# EAGLE library part 100-2X40 (library con-edge-finger)
PCB EDGE FINGER 0.1 Pitch, 2x40, Dual Row (80 Pin)
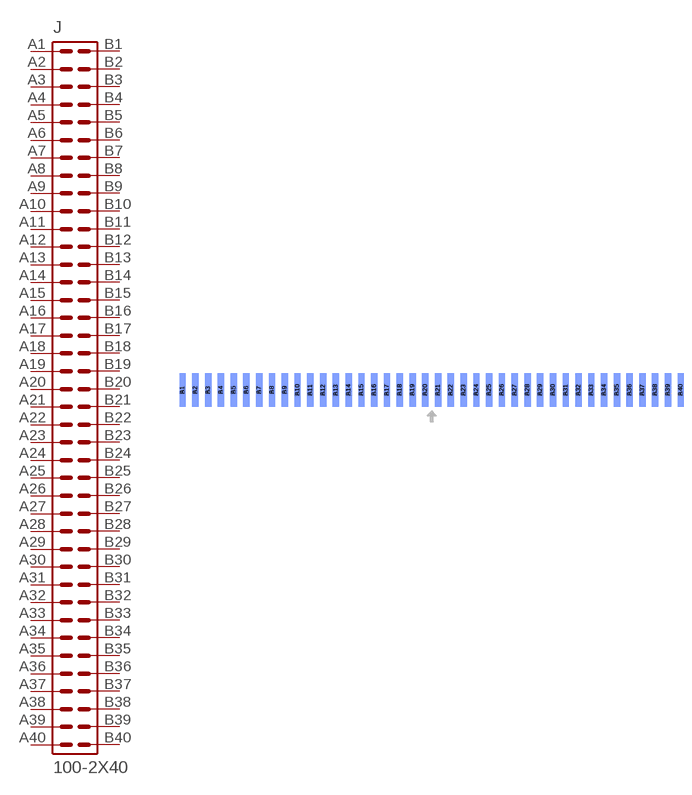
[diagram p0: symbol with the pads of 100-2X40; footprint 100-2X40]

Designator prefix J

## 100-2X40  [100-2X40]
A1  A1  pas
A2  A2  pas
A3  A3  pas
A4  A4  pas
A5  A5  pas
A6  A6  pas
A7  A7  pas
A8  A8  pas
A9  A9  pas
A10  A10  pas
A11  A11  pas
A12  A12  pas
A13  A13  pas
A14  A14  pas
A15  A15  pas
A16  A16  pas
A17  A17  pas
A18  A18  pas
A19  A19  pas
A20  A20  pas
A21  A21  pas
A22  A22  pas
A23  A23  pas
A24  A24  pas
A25  A25  pas
A26  A26  pas
A27  A27  pas
A28  A28  pas
A29  A29  pas
A30  A30  pas
A31  A31  pas
A32  A32  pas
A33  A33  pas
A34  A34  pas
A35  A35  pas
A36  A36  pas
A37  A37  pas
A38  A38  pas
A39  A39  pas
A40  A40  pas
B1  B1  pas
B2  B2  pas
B3  B3  pas
B4  B4  pas
B5  B5  pas
B6  B6  pas
B7  B7  pas
B8  B8  pas
B9  B9  pas
B10  B10  pas
B11  B11  pas
B12  B12  pas
B13  B13  pas
B14  B14  pas
B15  B15  pas
B16  B16  pas
B17  B17  pas
B18  B18  pas
B19  B19  pas
B20  B20  pas
B21  B21  pas
B22  B22  pas
B23  B23  pas
B24  B24  pas
B25  B25  pas
B26  B26  pas
B27  B27  pas
B28  B28  pas
B29  B29  pas
B30  B30  pas
B31  B31  pas
B32  B32  pas
B33  B33  pas
B34  B34  pas
B35  B35  pas
B36  B36  pas
B37  B37  pas
B38  B38  pas
B39  B39  pas
B40  B40  pas

## Footprint 100-2X40 (pad centres in mm)
PCB Edge Finger 2x40, pitch 0.1"
smd 1.27 x 6.731: A1 -49.53,-3.493; A2 -46.99,-3.493; A3 -44.45,-3.493; A4 -41.91,-3.493; A5 -39.37,-3.493; A6 -36.83,-3.493; A7 -34.29,-3.493; A8 -31.75,-3.493; A9 -29.21,-3.493; A10 -26.67,-3.493; A11 -24.13,-3.493; A12 -21.59,-3.493; A13 -19.05,-3.493; A14 -16.51,-3.493; A15 -13.97,-3.493; A16 -11.43,-3.493; A17 -8.89,-3.493; A18 -6.35,-3.493; A19 -3.81,-3.493; A20 -1.27,-3.493; A21 1.27,-3.493; A22 3.81,-3.493; A23 6.35,-3.493; A24 8.89,-3.493; A25 11.43,-3.493; A26 13.97,-3.493; A27 16.51,-3.493; A28 19.05,-3.493; A29 21.59,-3.493; A30 24.13,-3.493; A31 26.67,-3.493; A32 29.21,-3.493; A33 31.75,-3.493; A34 34.29,-3.493; A35 36.83,-3.493; A36 39.37,-3.493; A37 41.91,-3.493; A38 44.45,-3.493; A39 46.99,-3.493; A40 49.53,-3.493
smd 1.27 x 6.731 bottom: B1 -49.53,-3.493; B2 -46.99,-3.493; B3 -44.45,-3.493; B4 -41.91,-3.493; B5 -39.37,-3.493; B6 -36.83,-3.493; B7 -34.29,-3.493; B8 -31.75,-3.493; B9 -29.21,-3.493; B10 -26.67,-3.493; B11 -24.13,-3.493; B12 -21.59,-3.493; B13 -19.05,-3.493; B14 -16.51,-3.493; B15 -13.97,-3.493; B16 -11.43,-3.493; B17 -8.89,-3.493; B18 -6.35,-3.493; B19 -3.81,-3.493; B20 -1.27,-3.493; B21 1.27,-3.493; B22 3.81,-3.493; B23 6.35,-3.493; B24 8.89,-3.493; B25 11.43,-3.493; B26 13.97,-3.493; B27 16.51,-3.493; B28 19.05,-3.493; B29 21.59,-3.493; B30 24.13,-3.493; B31 26.67,-3.493; B32 29.21,-3.493; B33 31.75,-3.493; B34 34.29,-3.493; B35 36.83,-3.493; B36 39.37,-3.493; B37 41.91,-3.493; B38 44.45,-3.493; B39 46.99,-3.493; B40 49.53,-3.493